# Altium schematic symbol library EL-sense_Switch.SchLib: 9 symbols
Pins are listed as number, name and electrical type; pins without a type are passive.

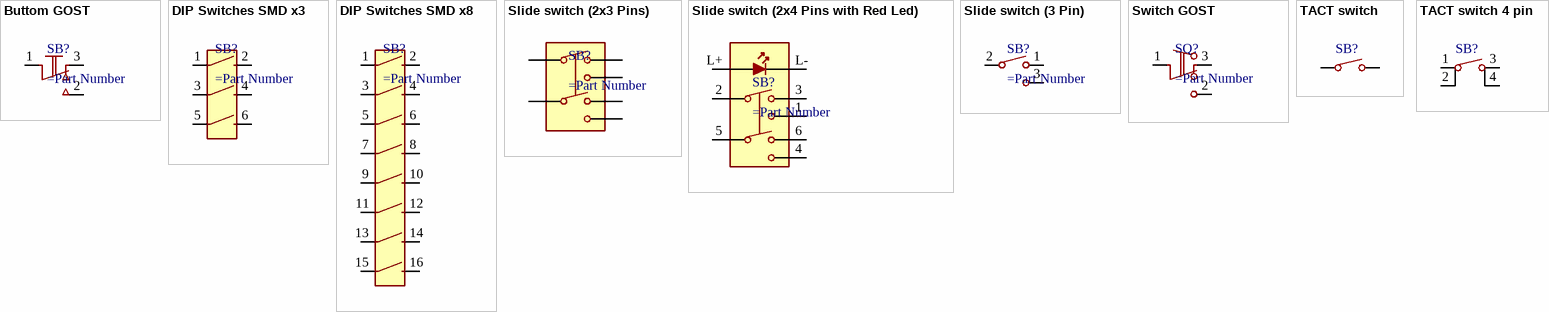
[diagram p0: symbols Buttom GOST to TACT switch 4 pin]

## Buttom GOST
designator SB?
pins: 1, 2, 3

## DIP Switches SMD x3
designator SB?
pins: 1, 2, 3, 4, 5, 6

## DIP Switches SMD x8
designator SB?
pins: 1, 2, 3, 4, 5, 6, 7, 8, 9 7, 10, 11, 12, 13, 14, 15, 16

## Slide switch (2x3 Pins)
designator SB?
pins: 1, 2, 3, 4, 5, 6

## Slide switch (2x4 Pins with Red Led)
designator SB?
pins: 1, 2, 3, 4, 5, 6, L+, L-

## Slide switch (3 Pin)
designator SB?
pins: 1, 2, 3

## Switch GOST
designator SQ?
pins: 1, 2, 3

## TACT switch
designator SB?
pins: 1, 2 1

## TACT switch 4 pin
designator SB?
pins: 1, 2, 3, 4